# EAGLE library part ARDUINO_NANO (library ARDUINO_NANO)
Arduino Nano, Through Hole
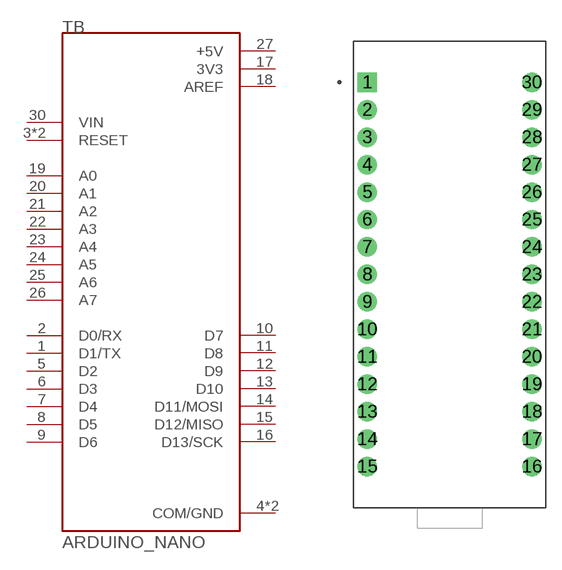
[diagram p0: symbol with the pads of SHIELD_ARDUINO_NANO; footprint SHIELD_ARDUINO_NANO]

Designator prefix TB

## ARDUINO_NANO (Availability: Unavailable; Description: ATmega4809 Arduino Nano Every with Headers AVR® AVR MCU 8-Bit Embedded Evaluation Board; MF: Arduino; MP: ARDUINO NANO; Package: None; Price: None)  [SHIELD_ARDUINO_NANO]
1  D1/TX
2  D0/RX
3  RESET  in
4  COM/GND  pwr
5  D2
6  D3
7  D4
8  D5
9  D6
10  D7
11  D8
12  D9
13  D10
14  D11/MOSI
15  D12/MISO
16  D13/SCK
17  3V3  pwr
18  AREF  pwr
19  A0  in
20  A1  in
21  A2  in
22  A3  in
23  A4  in
24  A5  in
25  A6  in
26  A7  in
27  +5V  pwr
28  RESET  in
29  COM/GND  pwr
30  VIN  in

## Footprint SHIELD_ARDUINO_NANO (pad centres in mm)
drill 0.9 pad 1.8 square: 1 -7.62,17.78
drill 0.9 pad 1.8: 2 -7.62,15.24; 3 -7.62,12.7; 4 -7.62,10.16; 5 -7.62,7.62; 6 -7.62,5.08; 7 -7.62,2.54; 8 -7.62,0; 9 -7.62,-2.54; 10 -7.62,-5.08; 11 -7.62,-7.62; 12 -7.62,-10.16; 13 -7.62,-12.7; 14 -7.62,-15.24; 15 -7.62,-17.78; 16 7.62,-17.78; 17 7.62,-15.24; 18 7.62,-12.7; 19 7.62,-10.16; 20 7.62,-7.62; 21 7.62,-5.08; 22 7.62,-2.54; 23 7.62,0; 24 7.62,2.54; 25 7.62,5.08; 26 7.62,7.62; 27 7.62,10.16; 28 7.62,12.7; 29 7.62,15.24; 30 7.62,17.78